# EAGLE library part IC-STBC08PMR (library wolff-den)
STBC08 Series 6.5 V Single Standalone Linear Li-Ion Battery Charger - DFN-6
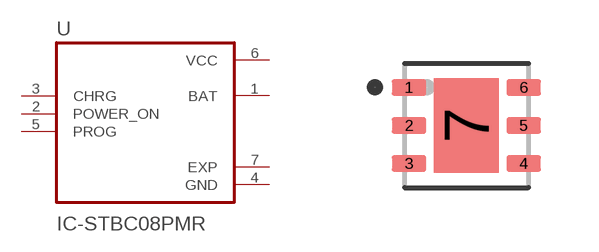
[diagram p9: symbol with the pads of SON95P300X300X100-7N; footprint SON95P300X300X100-7N]

Designator prefix U

## IC-STBC08PMR (DESC: IC BATT CHRGR LI-ION 800MA DFN6; DIGIKEYPN: 497-5808-1-ND; MF: STMicroelectronics; MPN: STBC08PMR)  [SON95P300X300X100-7N]
1  BAT  out
2  POWER_ON
3  CHRG
4  GND  pwr
5  PROG
6  VCC  pwr
7  EXP  pwr

## Footprint SON95P300X300X100-7N (pad centres in mm)
smd 0.86 x 0.4: 1 -1.435,0.95; 2 -1.435,0; 3 -1.435,-0.95; 4 1.435,-0.95; 5 1.435,0; 6 1.435,0.95
smd 1.625 x 2.365: 7 0,0